# EAGLE library part MM74HC157M (library Fairchild_By_element14_Batch_1)
Quad 2-Input Multiplexer
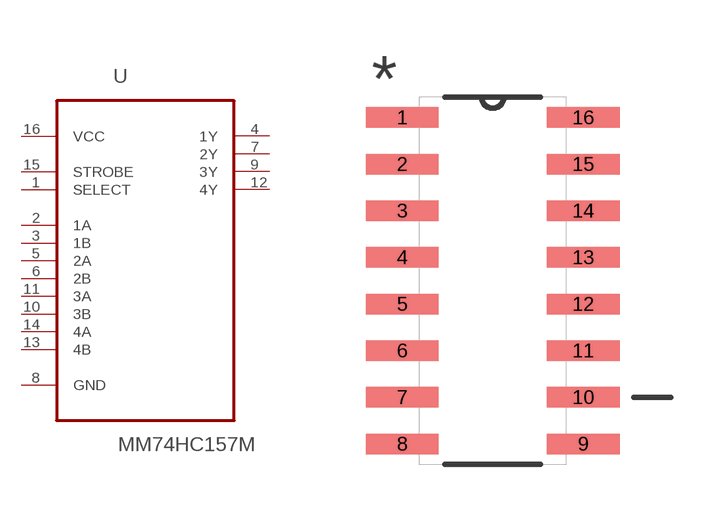
[diagram p254: symbol with the pads of SOIC127P600X175-16N; footprint SOIC127P600X175-16N]

Designator prefix U

## MM74HC157M (MPN: MM74HC157M; OC_FARNELL: 1013965; OC_NEWARK: 82C9128; PACKAGE: SOIC-16; SUPPLIER: Fairchild)  [SOIC127P600X175-16N]
1  SELECT  pas
2  1A  in
3  1B  in
4  1Y  out
5  2A  in
6  2B  in
7  2Y  out
8  GND  pas
9  3Y  out
10  3B  in
11  3A  in
12  4Y  out
13  4B  in
14  4A  in
15  STROBE  pas
16  VCC  pwr

## Footprint SOIC127P600X175-16N (pad centres in mm)
smd 1.981 x 0.559: 1 -2.464,4.445; 2 -2.464,3.175; 3 -2.464,1.905; 4 -2.464,0.635; 5 -2.464,-0.635; 6 -2.464,-1.905; 7 -2.464,-3.175; 8 -2.464,-4.445; 9 2.464,-4.445; 10 2.464,-3.175; 11 2.464,-1.905; 12 2.464,-0.635; 13 2.464,0.635; 14 2.464,1.905; 15 2.464,3.175; 16 2.464,4.445